# Altium footprint library GhaniLibrary.PcbLib: 19 footprints (part 2 of 2)
Each footprint in its own frame and in the unit in brackets; x right, y up, seen from the top. Pads: shape width x height; smd on the part's side, far side on the other; paste and mask are expansions set on the pad; w line width, h text height; cw(c..) or ccw(c..) is an arc to the next point about the centre after c.
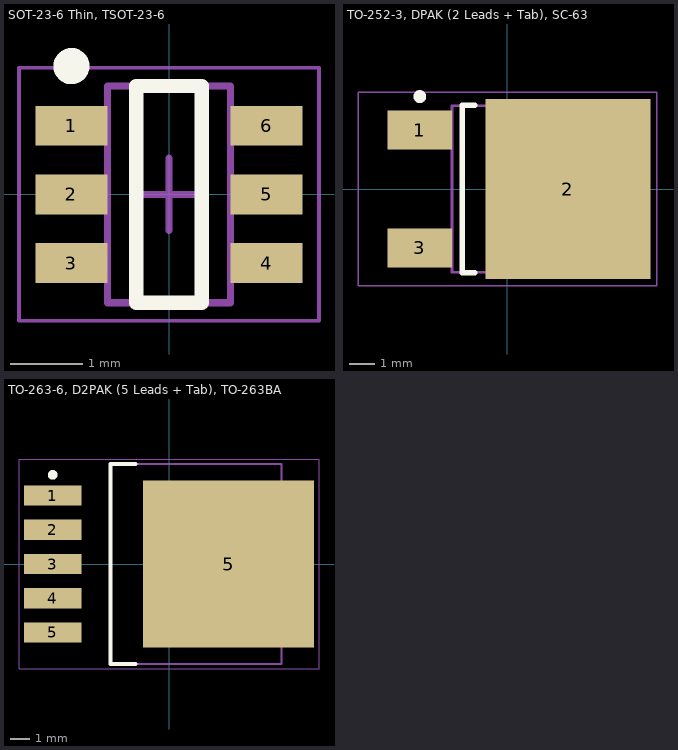
[diagram p1: the footprints below, top view; thin cyan lines are the x and y axes]

## SOT-23-6 Thin, TSOT-23-6 [mm] "SOT23, 6-Leads, Body 2.90x2.80mm, Pitch 0.95mm, IPC Medium Density"
height 1
pads (6):
  rect 1x0.55 smd: 1(-1.35,0.95) 2(-1.35,0) 3(-1.35,-0.95) 4(1.35,-0.95) 5(1.35,0) 6(1.35,0.95)
Top Overlay:
  circle w0.25: c-1.35,1.775 r0.125
  lines w0.2: -0.45,-1.5 -0.45,1.5 0.45,1.5 0.45,-1.5 -0.45,-1.5
Mechanical 13:
  lines w0.1: -0.85,-1.5 0.85,-1.5 0.85,1.5 -0.85,1.5 -0.85,-1.5
Mechanical 15:
  lines w0.05: -2.075,-1.75 2.075,-1.75 2.075,1.75 -2.075,1.75 -2.075,-1.75
  lines w0.1: -0.5,0 0.5,0 ; 0,-0.5 0,0.5
3D body "SOT-23-6 Thin, TSOT-23-6.step": height 1, standoff 0, extent -1.4,-1.5 1.4,1.5

## TO-252-3, DPAK (2 Leads + Tab), SC-63 [mm] "D-PAK, 3-Pads (2 Leads + Tab), IPC Medium Density"
height 2.39
pads (3):
  rect 2.5x1.5 smd: 1(-3.4,2.29) 3(-3.4,-2.29)
  rect 6.4x7 smd: 2(2.35,0)
Top Overlay:
  circle w0.25: c-3.4,3.59 r0.125
  lines w0.2: -1.25,-3.25 -1.75,-3.25 -1.75,3.25 -1.25,3.25
Mechanical 13:
  lines w0.1: -2.15,-3.225 4.05,-3.225 4.05,3.225 -2.15,3.225 -2.15,-3.225
Mechanical 15:
  lines w0.05: -5.8,-3.75 5.8,-3.75 5.8,3.75 -5.8,3.75 -5.8,-3.75
  lines w0.1: -0.5,0 0.5,0 ; 0,-0.5 0,0.5
3D body "TO-252-3, DPAK (2 Leads + Tab), SC-63.step": height 2.52, standoff 0, extent -3.91,-3.225 5.99,3.225

## TO-263-6, D2PAK (5 Leads + Tab), TO-263BA [mm] "D2-PAK, 6-Pads (5 Leads + Tab), Body 7.55x8.56mm (max), IPC Medium Density"
height 4.7
pads (6):
  rect 3x1.05 smd: 1(-6.05,3.56) 2(-6.05,1.78) 3(-6.05,0) 4(-6.05,-1.78) 5(-6.05,-3.56)
  rect 8.9x8.7 smd: 5(3.1,0)
Top Overlay:
  circle w0.25: c-6.05,4.635 r0.125
  lines w0.2: -1.75,-5.2 -3.05,-5.2 -3.05,5.2 -1.75,5.2
Mechanical 13:
  lines w0.1: -3.05,-5.2 5.84,-5.2 5.84,5.2 -3.05,5.2 -3.05,-5.2
Mechanical 15:
  lines w0.05: -7.8,-5.45 7.8,-5.45 7.8,5.45 -7.8,5.45 -7.8,-5.45
  lines w0.1: -0.5,0 0.5,0 ; 0,-0.5 0,0.5
3D body "TO-263-6, D2PAK (5 Leads + Tab), TO-263BA.step": height 6.02, standoff 0, extent -6.65,-5.2 7.525,5.2